# Altium footprint library Lib.PcbLib: 18 footprints (part 1 of 2)
Each footprint in its own frame and in the unit in brackets; x right, y up, seen from the top. Pads: shape width x height; smd on the part's side, far side on the other; paste and mask are expansions set on the pad; w line width, h text height; cw(c..) or ccw(c..) is an arc to the next point about the centre after c.
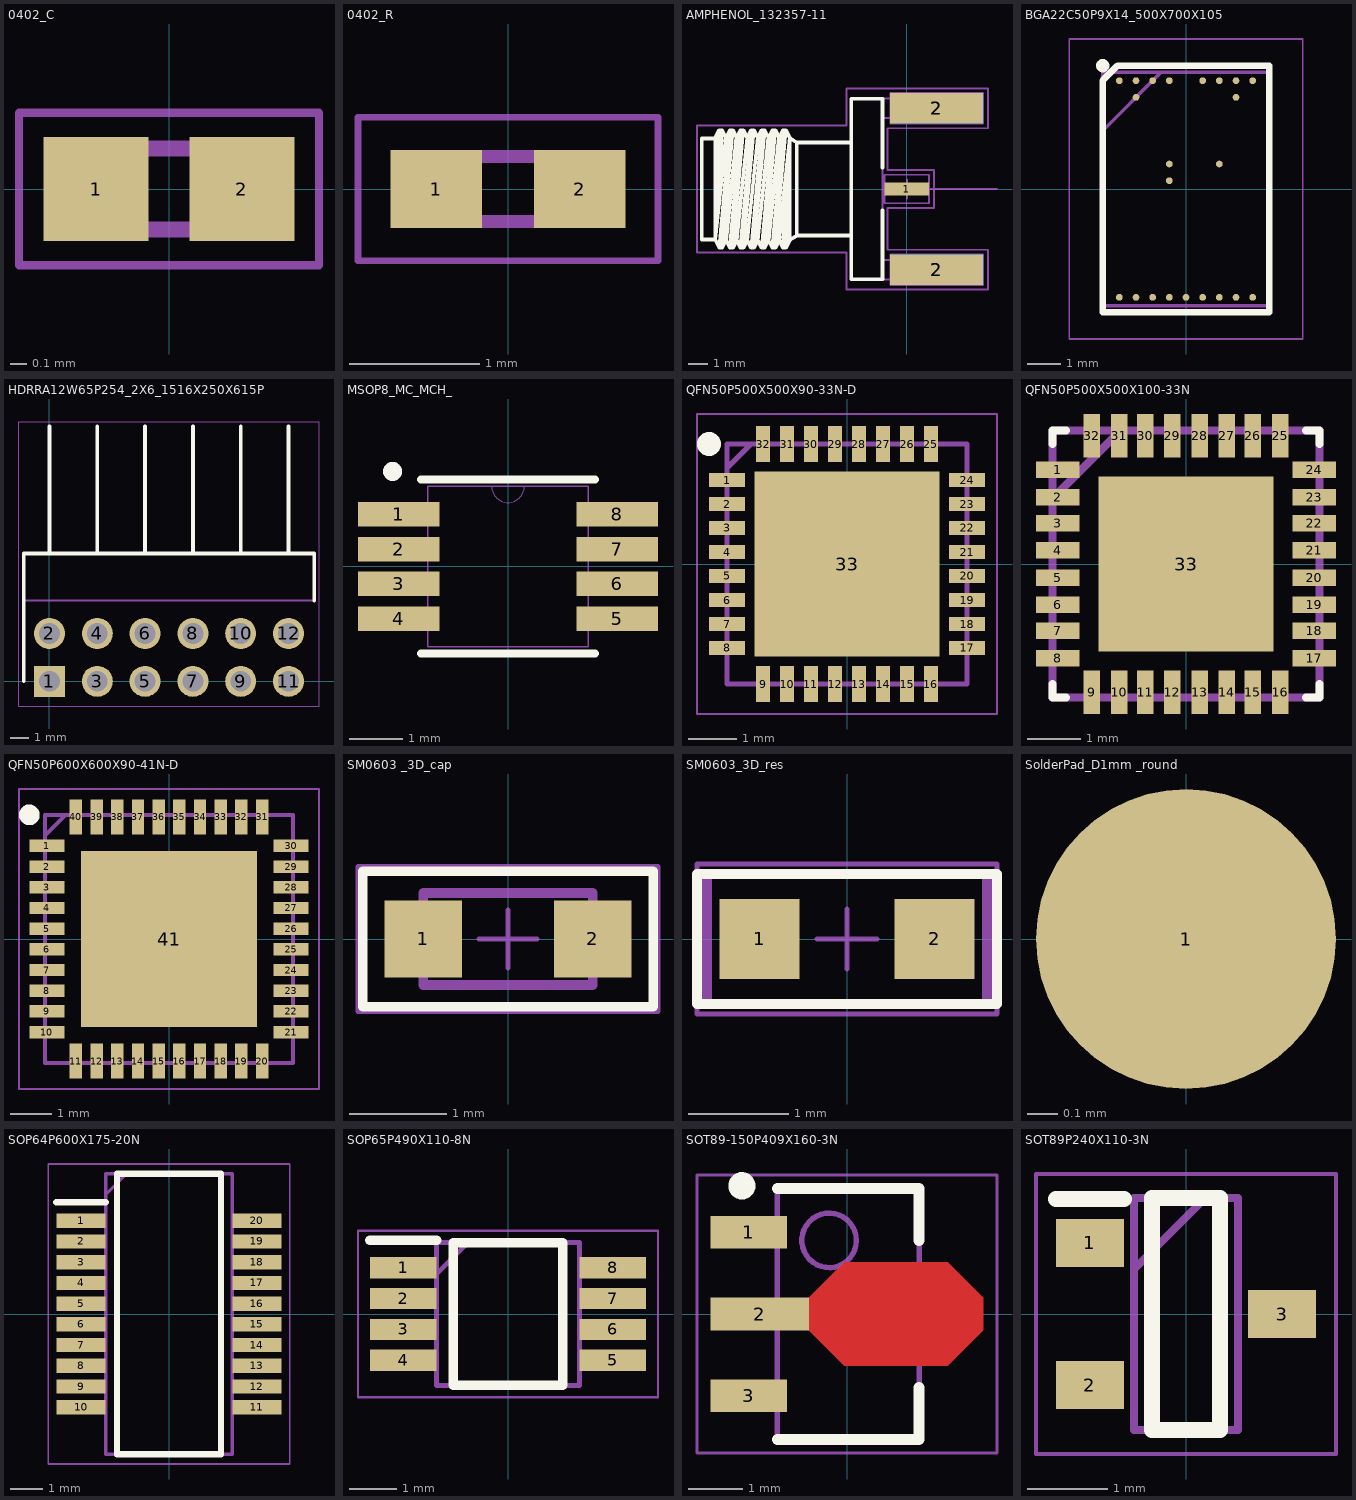
[diagram p0: the footprints below, top view; thin cyan lines are the x and y axes]

## 0402_C [mm]
pads (2):
  rect 0.65x0.64 smd: 1(-0.45,0) 2(0.45,0)
Mechanical 13:
  lines w0.1: -0.5,-0.25 0.5,-0.25 0.5,0.25 -0.5,0.25 -0.5,-0.25
Mechanical 15:
  lines w0.05: -0.925,-0.47 0.925,-0.47 0.925,0.47 -0.925,0.47 -0.925,-0.47
3D body "04023A100CAT2A.stp": height 0.56, standoff 0, extent -0.5,-0.25 0.5,0.25

## 0402_R [mm]
pads (2):
  rect 0.7x0.6 smd: 1(-0.55,0) 2(0.55,0)
Mechanical 13:
  lines w0.1: -0.5,-0.25 0.5,-0.25 0.5,0.25 -0.5,0.25 -0.5,-0.25
Mechanical 15:
  lines w0.05: -1.15,-0.55 1.15,-0.55 1.15,0.55 -1.15,0.55 -1.15,-0.55
3D body "CPF0402B100KE.stp": height 0.35, standoff 0, extent -0.5,-0.25 0.5,0.25

## AMPHENOL_132357-11 [mm]
pads (5):
  rect 2.35x0.7 smd: 1(0,0)
  rect 4.9x1.6 smd: 2(1.575,-4.25) 2(1.575,4.25)
  rect 4.9x1.6 smd far side: 2(1.575,-4.25) 2(1.575,4.25)
Top Overlay:
  lines w0.2: -10.09,2.665 -10.805,2.665 -10.805,-2.665 -10.09,-2.665 ; -6.17,-2.665 -5.795,-2.453 ; -2.925,-2.453 -5.795,-2.453 ; -2.925,2.447 -5.795,2.447 ; -1.275,-1.137 -1.275,-4.76 -2.925,-4.76 -2.925,4.76 -1.275,4.76 -1.275,1.137 ; -10.09,-2.665 -9.879,3.094 ; -10.09,-2.665 -9.741,3.094 ; -10.09,-2.665 -9.53,2.715 ; -10.09,-2.665 -9.879,-3.094 ; -10.09,-2.665 -10.09,2.715 -9.879,3.094 ; -9.879,-3.094 -9.319,3.094 ; -9.879,-3.094 -9.741,-3.094 ; -9.879,3.094 -9.741,3.094 ; -9.741,-3.094 -9.181,3.094 ; -9.741,-3.094 -9.53,-2.715 ; -9.741,3.094 -9.53,2.715 ; -9.53,-2.715 -8.97,2.715 ; -9.53,-2.715 -9.319,-3.094 ; -9.53,2.715 -9.319,3.094 ; -9.319,-3.094 -8.759,3.094 ; -9.319,-3.094 -9.181,-3.094 ; -9.319,3.094 -9.181,3.094 ; -9.181,-3.094 -8.621,3.094 ; -9.181,-3.094 -8.97,-2.715 ; -9.181,3.094 -8.97,2.715 ; -8.97,-2.715 -8.41,2.715 ; -8.97,-2.715 -8.759,-3.094 ; -8.97,2.715 -8.759,3.094 ; -8.759,-3.094 -8.199,3.094 ; -8.759,-3.094 -8.621,-3.094 ; -8.759,3.094 -8.621,3.094 ; -8.621,-3.094 -8.061,3.094 ; -8.621,-3.094 -8.41,-2.715 ; -8.621,3.094 -8.41,2.715 ; -8.41,-2.715 -7.85,2.715 ; -8.41,-2.715 -8.199,-3.094 ; -8.41,2.715 -8.199,3.094 ; -8.199,-3.094 -7.639,3.094 ; -8.199,-3.094 -8.061,-3.094 ; -8.199,3.094 -8.061,3.094 ; -8.061,-3.094 -7.501,3.094 ; -8.061,-3.094 -7.85,-2.715 ; -8.061,3.094 -7.85,2.715 ; -7.85,-2.715 -7.29,2.715 ; -7.85,-2.715 -7.639,-3.094 ; -7.85,2.715 -7.639,3.094 ; -7.639,-3.094 -7.079,3.094 ; -7.639,-3.094 -7.501,-3.094 ; -7.639,3.094 -7.501,3.094 ; -7.501,-3.094 -6.941,3.094 ; -7.501,-3.094 -7.29,-2.715 ; -7.501,3.094 -7.29,2.715 ; -7.29,-2.715 -6.73,2.715 ; -7.29,-2.715 -7.079,-3.094 ; -7.29,2.715 -7.079,3.094 ; -7.079,-3.094 -6.519,3.094 ; -7.079,-3.094 -6.941,-3.094 ; -7.079,3.094 -6.941,3.094 ; -6.941,-3.094 -6.381,3.094 ; -6.941,-3.094 -6.73,-2.715 ; -6.941,3.094 -6.73,2.715 ; -6.73,-2.715 -6.17,2.713 ; -6.73,-2.715 -6.519,-3.094 ; -6.73,2.715 -6.519,3.094 ; -6.519,-3.094 -6.17,2.713 ; -6.519,-3.094 -6.381,-3.094 ; -6.519,3.094 -6.381,3.094 ; -6.381,-3.094 -6.17,2.665 -5.795,2.447 ; -6.381,-3.094 -6.17,-2.715 -6.17,2.713 ; -6.381,3.094 -6.17,2.713 ; -5.795,-2.453 -5.795,2.447
Mechanical 8:
  lines w0.1: -0.5,0 0,0 ; 0,-0.5 0,0 ; 0,0.5 0,0 ; 0.5,0 0,0 ; 1.075,-4.25 1.575,-4.25 ; 1.075,4.25 1.575,4.25 ; 1.575,-4.75 1.575,-4.25 ; 1.575,-3.75 1.575,-4.25 ; 1.575,3.75 1.575,4.25 ; 1.575,4.75 1.575,4.25 ; 2.075,-4.25 1.575,-4.25 ; 2.075,4.25 1.575,4.25 ; -1.175,-0.75 1.175,-0.75 1.175,0.75 -1.175,0.75 -1.175,-0.75 ; -0.875,-5.05 -0.875,-3.45 4.025,-3.45 4.025,-5.05 -0.875,-5.05 ; -0.875,3.45 -0.875,5.05 4.025,5.05 4.025,3.45 -0.875,3.45
Mechanical 14:
  lines w0.1: -10.09,2.665 -10.805,2.665 -10.805,-2.665 -10.09,-2.665 ; -6.17,-2.665 -5.795,-2.453 ; -2.925,-2.453 -5.795,-2.453 ; -2.925,2.447 -5.795,2.447 ; -1.275,-4.76 -1.275,0 ; -1.275,-3.74 3.475,-3.74 3.475,-4.76 -2.925,-4.76 -2.925,4.76 3.475,4.76 3.475,3.74 -1.275,3.74 ; -1.275,-0.251 0.635,-0.251 0.635,0.251 -1.275,0.251 ; -1.275,4.76 -1.275,0 ; 4.75,0 -1.275,0 ; -10.09,-2.665 -9.879,3.094 ; -10.09,-2.665 -9.741,3.094 ; -10.09,-2.665 -9.53,2.715 ; -10.09,-2.665 -9.879,-3.094 ; -10.09,-2.665 -10.09,2.715 -9.879,3.094 ; -9.879,-3.094 -9.319,3.094 ; -9.879,-3.094 -9.741,-3.094 ; -9.879,3.094 -9.741,3.094 ; -9.741,-3.094 -9.181,3.094 ; -9.741,-3.094 -9.53,-2.715 ; -9.741,3.094 -9.53,2.715 ; -9.53,-2.715 -8.97,2.715 ; -9.53,-2.715 -9.319,-3.094 ; -9.53,2.715 -9.319,3.094 ; -9.319,-3.094 -8.759,3.094 ; -9.319,-3.094 -9.181,-3.094 ; -9.319,3.094 -9.181,3.094 ; -9.181,-3.094 -8.621,3.094 ; -9.181,-3.094 -8.97,-2.715 ; -9.181,3.094 -8.97,2.715 ; -8.97,-2.715 -8.41,2.715 ; -8.97,-2.715 -8.759,-3.094 ; -8.97,2.715 -8.759,3.094 ; -8.759,-3.094 -8.199,3.094 ; -8.759,-3.094 -8.621,-3.094 ; -8.759,3.094 -8.621,3.094 ; -8.621,-3.094 -8.061,3.094 ; -8.621,-3.094 -8.41,-2.715 ; -8.621,3.094 -8.41,2.715 ; -8.41,-2.715 -7.85,2.715 ; -8.41,-2.715 -8.199,-3.094 ; -8.41,2.715 -8.199,3.094 ; -8.199,-3.094 -7.639,3.094 ; -8.199,-3.094 -8.061,-3.094 ; -8.199,3.094 -8.061,3.094 ; -8.061,-3.094 -7.501,3.094 ; -8.061,-3.094 -7.85,-2.715 ; -8.061,3.094 -7.85,2.715 ; -7.85,-2.715 -7.29,2.715 ; -7.85,-2.715 -7.639,-3.094 ; -7.85,2.715 -7.639,3.094 ; -7.639,-3.094 -7.079,3.094 ; -7.639,-3.094 -7.501,-3.094 ; -7.639,3.094 -7.501,3.094 ; -7.501,-3.094 -6.941,3.094 ; -7.501,-3.094 -7.29,-2.715 ; -7.501,3.094 -7.29,2.715 ; -7.29,-2.715 -6.73,2.715 ; -7.29,-2.715 -7.079,-3.094 ; -7.29,2.715 -7.079,3.094 ; -7.079,-3.094 -6.519,3.094 ; -7.079,-3.094 -6.941,-3.094 ; -7.079,3.094 -6.941,3.094 ; -6.941,-3.094 -6.381,3.094 ; -6.941,-3.094 -6.73,-2.715 ; -6.941,3.094 -6.73,2.715 ; -6.73,-2.715 -6.17,2.713 ; -6.73,-2.715 -6.519,-3.094 ; -6.73,2.715 -6.519,3.094 ; -6.519,-3.094 -6.17,2.713 ; -6.519,-3.094 -6.381,-3.094 ; -6.519,3.094 -6.381,3.094 ; -6.381,-3.094 -6.17,2.665 -5.795,2.447 ; -6.381,-3.094 -6.17,-2.715 -6.17,2.713 ; -6.381,3.094 -6.17,2.713 ; -5.795,-2.453 -5.795,2.447
Mechanical 15:
  lines w0.1: -11.055,-3.344 -11.055,3.344 -3.175,3.344 -3.175,5.3 4.275,5.3 4.275,3.2 -1.025,3.2 -1.025,1 1.425,1 1.425,-1 -1.025,-1 -1.025,-3.2 4.275,-3.2 4.275,-5.3 -3.175,-5.3 -3.175,-3.344 -11.055,-3.344
3D body "AMPHENOL_132357-11.stp": height 4.08, standoff -3.84, extent -10.805,-4.76 3.475,4.76

## BGA22C50P9X14_500X700X105 [mm]
pads (22):
  round 0.2 smd: A1(-2,3.25) A2(-1.5,3.25) A3(-1,3.25) A4(-0.5,3.25) A6(0.5,3.25) A7(1,3.25) A8(1.5,3.25) A9(2,3.25) B2(-1.5,2.75) B8(1.5,2.75) F4(-0.5,0.75) F7(1,0.75) G4(-0.5,0.25) P1(-2,-3.25) P2(-1.5,-3.25) P3(-1,-3.25) P4(-0.5,-3.25) P5(0,-3.25) P6(0.5,-3.25) P7(1,-3.25) P8(1.5,-3.25) P9(2,-3.25)
Top Overlay:
  circle w0.2: c-2.5,3.7 r0.1
  lines w0.2: -2.5,-3.7 2.5,-3.7 2.5,3.7 -2.05,3.7 -2.5,3.25 -2.5,-3.7
Mechanical 13:
  lines w0.1: -2.5,1.75 -0.75,3.5 ; -2.5,-3.5 2.5,-3.5 2.5,3.5 -2.5,3.5 -2.5,-3.5
Mechanical 15:
  lines w0.05: -3.5,-4.5 3.5,-4.5 3.5,4.5 -3.5,4.5 -3.5,-4.5
3D body "HV7361GA-G.stp": height 1.05, standoff 0, extent -2.5,-3.5 2.5,3.5

## HDRRA12W65P254_2X6_1516X250X615P [mm]
pads (12):
  rect 1.65x1.65 hole 1.1: 1(0,0)
  round 1.65 hole 1.1: 2(0,2.54) 3(2.54,0) 4(2.54,2.54) 5(5.08,0) 6(5.08,2.54) 7(7.62,0) 8(7.62,2.54) 9(10.16,0) 10(10.16,2.54) 11(12.7,0) 12(12.7,2.54)
Top Overlay:
  lines w0.2: -1.37,0 -1.37,6.79 14.07,6.79 14.07,4.29 ; 0,6.79 0,13.54 ; 2.54,6.79 2.54,13.54 ; 5.08,6.79 5.08,13.54 ; 7.62,6.79 7.62,13.54 ; 10.16,6.79 10.16,13.54 ; 12.7,6.79 12.7,13.54
Mechanical 13:
  lines w0.1: -1.37,4.29 14.07,4.29 14.07,6.79 -1.37,6.79 -1.37,4.29
Mechanical 15:
  lines w0.05: -1.62,-1.325 -1.62,13.79 14.32,13.79 14.32,-1.325 -1.62,-1.325
3D body "90122-0126.stp": height 6.16, standoff -2.89, extent -1.27,-0.4 13.97,13.465

## MSOP8_MC_MCH_ [mil]
pads (8):
  rect 60x18 smd paste+0 mask+0: 1(-80.5,38.39) 2(-80.5,12.8) 3(-80.5,-12.8) 4(-80.5,-38.39) 5(80.5,-38.39) 6(80.5,-12.8) 7(80.5,12.8) 8(80.5,38.39)
Top Overlay:
  circle w10: c-85,70 r2
  lines w6: -64,-64 64,-64 ; -64,64 64,64
Mechanical 13:
  lines w0: -12,59 ccw(c0,59) 12,59
  lines w1: -96.5,-46.39 -59,-46.39 -59,-30.39 -96.5,-30.39 -96.5,-46.39 ; -96.5,-20.8 -59,-20.8 -59,-4.8 -96.5,-4.8 -96.5,-20.8 ; -96.5,4.8 -59,4.8 -59,20.8 -96.5,20.8 -96.5,4.8 ; -96.5,30.39 -59,30.39 -59,46.39 -96.5,46.39 -96.5,30.39 ; -59,-59 -59,59 59,59 59,-59 -59,-59 ; 59,-46.39 96.5,-46.39 96.5,-30.39 59,-30.39 59,-46.39 ; 59,-20.8 96.5,-20.8 96.5,-4.8 59,-4.8 59,-20.8 ; 59,4.8 96.5,4.8 96.5,20.8 59,20.8 59,4.8 ; 59,30.39 96.5,30.39 96.5,46.39 59,46.39 59,30.39
3D body "MSOP8_MC_MCH.step": height 43.11, standoff 0, extent -96.5,-59.02 96.5,59.02

## QFN50P500X500X90-33N-D [mm]
pads (33):
  rect 0.75x0.3 smd: 1(-2.5,1.75) 2(-2.5,1.25) 3(-2.5,0.75) 4(-2.5,0.25) 5(-2.5,-0.25) 6(-2.5,-0.75) 7(-2.5,-1.25) 8(-2.5,-1.75) 17(2.5,-1.75) 18(2.5,-1.25) 19(2.5,-0.75) 20(2.5,-0.25) 21(2.5,0.25) 22(2.5,0.75) 23(2.5,1.25) 24(2.5,1.75)
  rect 0.3x0.75 smd: 9(-1.75,-2.5) 10(-1.25,-2.5) 11(-0.75,-2.5) 12(-0.25,-2.5) 13(0.25,-2.5) 14(0.75,-2.5) 15(1.25,-2.5) 16(1.75,-2.5) 25(1.75,2.5) 26(1.25,2.5) 27(0.75,2.5) 28(0.25,2.5) 29(-0.25,2.5) 30(-0.75,2.5) 31(-1.25,2.5) 32(-1.75,2.5)
  rect 3.85x3.85 smd: 33(0,0)
Top Overlay:
  circle w0.25: c-2.875,2.5 r0.125
Mechanical 13:
  lines w0.1: -2.5,2 -2,2.5 ; -2.5,-2.5 2.5,-2.5 2.5,2.5 -2.5,2.5 -2.5,-2.5
Mechanical 15:
  lines w0.05: -3.125,-3.125 3.125,-3.125 3.125,3.125 -3.125,3.125 -3.125,-3.125
3D body "MSI2500.stp": height 0.9, standoff 0, extent -2.55,-2.55 2.55,2.55

## QFN50P500X500X100-33N [mil]
pads (33):
  rect 32x12 smd: 1(-94,69) 2(-94,49) 3(-94,30) 4(-94,10) 5(-94,-10) 6(-94,-30) 7(-94,-49) 8(-94,-69) 17(94,-69) 18(94,-49) 19(94,-30) 20(94,-10) 21(94,10) 22(94,30) 23(94,49) 24(94,69)
  rect 12x32 smd: 9(-69,-94) 10(-49,-94) 11(-30,-94) 12(-10,-94) 13(10,-94) 14(30,-94) 15(49,-94) 16(69,-94) 25(69,94) 26(49,94) 27(30,94) 28(10,94) 29(-10,94) 30(-30,94) 31(-49,94) 32(-69,94)
  rect 128x128 smd: 33(0,0)
Top Overlay:
  lines w6: -98,-88 -98,-98 -88,-98 ; -98,88 -98,98 -88,98 ; 88,-98 98,-98 98,-88 ; 88,98 98,98 98,88
Mechanical 13:
  lines w6: -98,-75 -98,-63 ; -98,-55 -98,-43 ; -98,-36 -98,-24 ; -98,-16 -98,-4 ; -98,4 -98,16 ; -98,24 -98,36 ; -98,43 -98,55 ; -98,48 -48,98 ; -98,63 -98,75 ; -75,-98 -63,-98 ; -75,98 -63,98 ; -55,-98 -43,-98 ; -55,98 -43,98 ; -36,-98 -24,-98 ; -36,98 -24,98 ; -16,-98 -4,-98 ; -16,98 -4,98 ; 4,-98 16,-98 ; 4,98 16,98 ; 24,-98 36,-98 ; 24,98 36,98 ; 43,-98 55,-98 ; 43,98 55,98 ; 63,-98 75,-98 ; 63,98 75,98 ; 98,-75 98,-63 ; 98,-55 98,-43 ; 98,-36 98,-24 ; 98,-16 98,-4 ; 98,4 98,16 ; 98,24 98,36 ; 98,43 98,55 ; 98,63 98,75 ; -98,-98 -98,98 98,98 98,-98 -98,-98

## QFN50P600X600X90-41N-D [mm]
pads (41):
  rect 0.85x0.3 smd: 1(-2.95,2.25) 2(-2.95,1.75) 3(-2.95,1.25) 4(-2.95,0.75) 5(-2.95,0.25) 6(-2.95,-0.25) 7(-2.95,-0.75) 8(-2.95,-1.25) 9(-2.95,-1.75) 10(-2.95,-2.25) 21(2.95,-2.25) 22(2.95,-1.75) 23(2.95,-1.25) 24(2.95,-0.75) 25(2.95,-0.25) 26(2.95,0.25) 27(2.95,0.75) 28(2.95,1.25) 29(2.95,1.75) 30(2.95,2.25)
  rect 0.3x0.85 smd: 11(-2.25,-2.95) 12(-1.75,-2.95) 13(-1.25,-2.95) 14(-0.75,-2.95) 15(-0.25,-2.95) 16(0.25,-2.95) 17(0.75,-2.95) 18(1.25,-2.95) 19(1.75,-2.95) 20(2.25,-2.95) 31(2.25,2.95) 32(1.75,2.95) 33(1.25,2.95) 34(0.75,2.95) 35(0.25,2.95) 36(-0.25,2.95) 37(-0.75,2.95) 38(-1.25,2.95) 39(-1.75,2.95) 40(-2.25,2.95)
  rect 4.25x4.25 smd: 41(0,0)
Top Overlay:
  circle w0.25: c-3.375,3 r0.125
Mechanical 13:
  lines w0.1: -3,2.5 -2.5,3 ; -3,-3 -3,3 3,3 3,-3 -3,-3
Mechanical 15:
  lines w0.05: -3.625,-3.625 -3.625,3.625 3.625,3.625 3.625,-3.625 -3.625,-3.625
3D body "MSI001.stp": height 0.9, standoff 0, extent -3.05,-3.05 3.05,3.05

## SM0603 _3D_cap [mm]
pads (2):
  rect 0.8x0.8 smd: 1(-0.875,0) 2(0.875,0)
Top Overlay:
  lines w0.1: -1.5,-0.7 -1.5,0.7 1.5,0.7 1.5,-0.7 -1.5,-0.7
Mechanical 14:
  lines w0.1: -0.875,-0.475 -0.875,0.475 0.875,0.475 0.875,-0.475 -0.875,-0.475
Mechanical 15:
  lines w0.05: -0.3,0 0.3,0 ; 0,-0.3 0,0.3 ; -1.55,-0.75 1.55,-0.75 1.55,0.75 -1.55,0.75 -1.55,-0.75
3D body "CAPC1608X87N.stp": height 0.87, standoff 0, extent -0.875,-0.475 0.875,0.475

## SM0603_3D_res [mm]
pads (2):
  rect 0.8x0.8 smd: 1(-0.875,0) 2(0.875,0)
Top Overlay:
  lines w0.1: -1.5,-0.65 -1.5,0.65 1.5,0.65 1.5,-0.65 -1.5,-0.65
Mechanical 14:
  lines w0.1: -1.4,-0.65 -1.4,0.65 1.4,0.65 1.4,-0.65 -1.4,-0.65
Mechanical 15:
  lines w0.05: -0.3,0 0.3,0 ; 0,-0.3 0,0.3 ; -1.5,-0.75 1.5,-0.75 1.5,0.75 -1.5,0.75 -1.5,-0.75
3D body "RESC1608X55N.stp": height 0.55, standoff 0, extent -0.875,-0.475 0.875,0.475

## SolderPad_D1mm _round [mm]
pads (1):
  round 1 smd: 1(0,0)

## SOP64P600X175-20N [mm]
pads (20):
  rect 1.52x0.44 smd: 1(-2.715,2.88) 2(-2.715,2.24) 3(-2.715,1.6) 4(-2.715,0.96) 5(-2.715,0.32) 6(-2.715,-0.32) 7(-2.715,-0.96) 8(-2.715,-1.6) 9(-2.715,-2.24) 10(-2.715,-2.88) 11(2.715,-2.88) 12(2.715,-2.24) 13(2.715,-1.6) 14(2.715,-0.96) 15(2.715,-0.32) 16(2.715,0.32) 17(2.715,0.96) 18(2.715,1.6) 19(2.715,2.24) 20(2.715,2.88)
Top Overlay:
  lines w0.2: -3.475,3.45 -1.955,3.45 ; -1.605,-4.328 -1.605,4.328 1.605,4.328 1.605,-4.328 -1.605,-4.328
Mechanical 13:
  lines w0.1: -1.955,3.688 -1.315,4.328 ; -1.955,-4.328 -1.955,4.328 1.955,4.328 1.955,-4.328 -1.955,-4.328
Mechanical 15:
  lines w0.05: -3.725,-4.63 -3.725,4.63 3.725,4.63 3.725,-4.63 -3.725,-4.63
3D body "AD8331ARQZ.stp": height 1.75, standoff 0, extent -2.997,-4.327 2.997,4.327

## SOP65P490X110-8N [mm]
pads (8):
  rect 1.4x0.45 smd: 1(-2.2,0.975) 2(-2.2,0.325) 3(-2.2,-0.325) 4(-2.2,-0.975) 5(2.2,-0.975) 6(2.2,-0.325) 7(2.2,0.325) 8(2.2,0.975)
Top Overlay:
  lines w0.2: -2.9,1.55 -1.5,1.55 ; -1.15,-1.5 1.15,-1.5 1.15,1.5 -1.15,1.5 -1.15,-1.5
Mechanical 13:
  lines w0.1: -1.5,0.85 -0.85,1.5 ; -1.5,-1.5 1.5,-1.5 1.5,1.5 -1.5,1.5 -1.5,-1.5
Mechanical 15:
  lines w0.05: -3.15,-1.75 3.15,-1.75 3.15,1.75 -3.15,1.75 -3.15,-1.75
3D body "MCP4812-E_MS.stp": height 1.1, standoff 0, extent -2.45,-1.5 2.45,1.5

## SOT89-150P409X160-3N [mm]
pads (3):
  rect 1.4x0.6 smd: 1(-1.8,1.5) 3(-1.8,-1.5)
  rect 1.8x0.6 smd: 2(-1.6,0)
Top Layer:
  region: -0.7,0.3 -0.05,0.95 1.85,0.95 2.5,0.3 2.5,-0.3 1.85,-0.95 -0.05,-0.95 -0.7,-0.3
Top Overlay:
  circle w0.25: c-1.927,2.35 r0.125
  lines w0.2: -1.278,-2.3 1.322,-2.3 1.322,-1.35 ; -1.278,2.3 1.322,2.3 1.322,1.35
Mechanical 13:
  circle w0.1: c-0.327,1.35 r0.5
  lines w0.1: -1.278,-2.3 1.322,-2.3 1.322,2.3 -1.278,2.3 -1.278,-2.3
Mechanical 15:
  lines w0.05: -2.75,-2.55 2.75,-2.55 2.75,2.55 -2.75,2.55 -2.75,-2.55
  lines w0.1: -0.477,0 0.523,0 ; 0.022,-0.5 0.022,0.5
3D body: height 1.6, standoff 0, extent -1.278,-2.3 1.322,2.3

## SOT89P240X110-3N [mm]
pads (3):
  rect 0.85x0.6 smd: 1(-1.2,0.89) 2(-1.2,-0.89) 3(1.2,0)
Top Overlay:
  lines w0.2: -1.625,1.44 -0.775,1.44 ; -0.425,-1.45 0.425,-1.45 0.425,1.45 -0.425,1.45 -0.425,-1.45
Mechanical 13:
  lines w0.1: -0.65,0.56 0.24,1.45 ; -0.65,-1.45 0.65,-1.45 0.65,1.45 -0.65,1.45 -0.65,-1.45
Mechanical 15:
  lines w0.05: -1.875,-1.75 1.875,-1.75 1.875,1.75 -1.875,1.75 -1.875,-1.75
3D body "AP2127N-3.3TRG1.stp": height 1.1, standoff 0, extent -1.2,-1.45 1.2,1.45